# Altium footprint library AltiumOpenLibs.PcbLib: 173 footprints (part 8 of 11)
Each footprint in its own frame and in the unit in brackets; x right, y up, seen from the top. Pads: shape width x height; smd on the part's side, far side on the other; paste and mask are expansions set on the pad; w line width, h text height; cw(c..) or ccw(c..) is an arc to the next point about the centre after c.
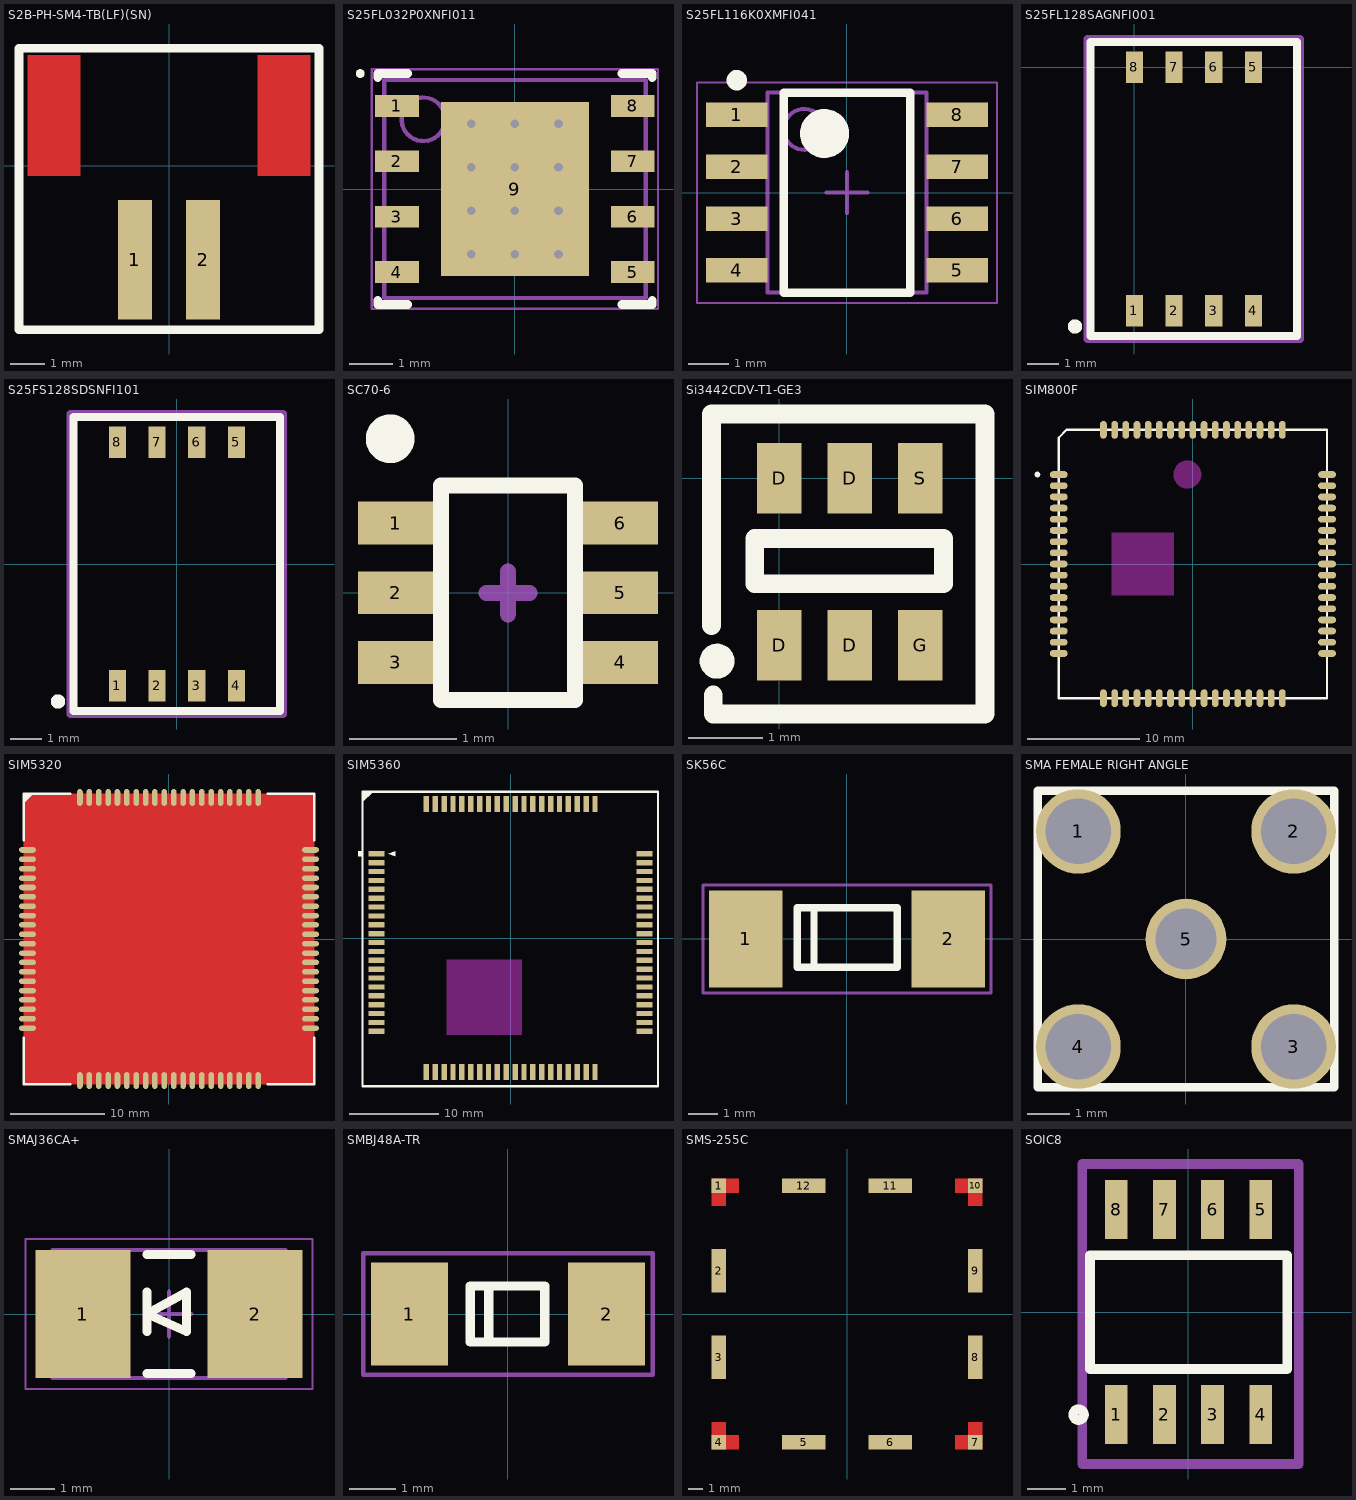
[diagram p7: the footprints below, top view; thin cyan lines are the x and y axes]

## S2B-PH-SM4-TB(LF)(SN) [mm]
pads (2):
  rect 1x3.5 smd: 1(-1,-2.75) 2(1,-2.75)
Top Layer:
  rectangle: -4.15,-0.3 -2.6,3.25
  region: 4.15,3.25 2.6,3.25 2.6,-0.3 4.15,-0.3
Top Overlay:
  lines w0.254: -4.4,-4.8 -4.4,3.45 4.4,3.45 4.4,-4.8 -4.4,-4.8
Top Paste:
  rectangle: 2.6,-0.3 4.15,3.25
  rectangle: -4.15,-0.3 -2.6,3.25
Top Solder:
  rectangle: 2.5,-0.4 4.25,3.35
  rectangle: -4.25,-0.4 -2.5,3.35

## S25FL032P0XNFI011 [mm] "PSON, 8-Leads, Body 5,00x6,00mm, Pitch 1,27mm, Thermal Pad 4,00x3,40mm, IPC Medium Density"
height 0.55
pads (9):
  rect 1x0.5 smd: 1(-2.705,1.905) 2(-2.705,0.635) 3(-2.705,-0.635) 4(-2.705,-1.905) 5(2.705,-1.905) 6(2.705,-0.635) 7(2.705,0.635) 8(2.705,1.905)
  rect 3.4x4 smd paste-1.7: 9(0,0)
via 1,-1.5 diameter 0.5 hole 0.2
via 0,-1.5 diameter 0.5 hole 0.2
via -1,-1.5 diameter 0.5 hole 0.2
via 1,-0.5 diameter 0.5 hole 0.2
via 0,-0.5 diameter 0.5 hole 0.2
via -1,-0.5 diameter 0.5 hole 0.2
via 1,0.5 diameter 0.5 hole 0.2
via 0,0.5 diameter 0.5 hole 0.2
via -1,0.5 diameter 0.5 hole 0.2
via 1,1.5 diameter 0.5 hole 0.2
via 0,1.5 diameter 0.5 hole 0.2
via -1,1.5 diameter 0.5 hole 0.2
Top Overlay:
  circle w0.1: c-3.55,2.65 r0.05
  lines w0.2: -3.15,-2.555 -3.15,-2.65 -2.455,-2.65 ; -3.15,2.555 -3.15,2.65 -2.455,2.65 ; 2.455,-2.65 3.15,-2.65 3.15,-2.555 ; 2.455,2.65 3.15,2.65 3.15,2.555
Top Paste:
  rectangle: 0.665,-1.895 1.595,-0.765
  rectangle: 0.665,-0.565 1.595,0.565
  rectangle: 0.665,0.765 1.595,1.895
  rectangle: -0.465,-1.895 0.465,-0.765
  rectangle: -0.465,-0.565 0.465,0.565
  rectangle: -0.465,0.765 0.465,1.895
  rectangle: -1.595,-1.895 -0.665,-0.765
  rectangle: -1.595,-0.565 -0.665,0.565
  rectangle: -1.595,0.765 -0.665,1.895
Mechanical 13:
  circle w0.1: c-2.1,1.6 r0.5
  lines w0.1: -3,-2.5 3,-2.5 3,2.5 -3,2.5 -3,-2.5
Mechanical 15:
  lines w0.05: -3.285,-2.75 3.285,-2.75 3.285,2.75 -3.285,2.75 -3.285,-2.75
  lines w0.1: -0.5,0 0.5,0 ; 0,-0.5 0,0.5
3D body: height 0.55, standoff 0, extent -3,-2.5 3,2.5

## S25FL116K0XMFI041 [mm] "SOIC, 8-Leads, Body 4.90x3.90mm, Pitch 1.27mm, IPC Medium Density"
height 1.75
pads (8):
  rect 1.5x0.6 smd: 1(-2.7,1.905) 2(-2.7,0.635) 3(-2.7,-0.635) 4(-2.7,-1.905) 5(2.7,-1.905) 6(2.7,-0.635) 7(2.7,0.635) 8(2.7,1.905)
Top Overlay:
  circle w0.25: c-2.7,2.755 r0.125
  circle w0.6: c-0.55,1.45 r0.3
  lines w0.2: -1.55,-2.45 -1.55,2.45 1.55,2.45 1.55,-2.45 -1.55,-2.45
Mechanical 13:
  circle w0.1: c-1.05,1.55 r0.5
  lines w0.1: -1.95,-2.45 -1.95,2.45 1.95,2.45 1.95,-2.45 -1.95,-2.45
Mechanical 15:
  lines w0.05: -3.675,-2.7 -3.675,2.7 3.675,2.7 3.675,-2.7 -3.675,-2.7
  lines w0.1: -0.5,0 0.5,0 ; 0,-0.5 0,0.5
3D body: height 1.75, standoff 0.25, extent -1.95,-2.45 1.95,2.45

## S25FL128SAGNFI001 [mm]
pads (8):
  rect 0.55x1 smd: 1(0,-7.8) 2(1.27,-7.8) 3(2.54,-7.8) 4(3.81,-7.8) 5(3.81,0) 6(2.54,0) 7(1.27,0) 8(0,0)
Top Overlay:
  circle w0.254: c-1.9,-8.3 r0.1
  lines w0.254: -1.4,-8.6 5.2,-8.6 5.2,0.8 -1.4,0.8 -1.4,-8.3 -1.4,-8.6
Mechanical 15:
  lines w0.254: -1.5,-8.7 -1.5,0.9 5.3,0.9 5.3,-8.7 -1.5,-8.7
3D body: height 0.75, standoff 0, extent -1.1,-7.875 4.9,0.075

## S25FS128SDSNFI101 [mm]
pads (8):
  rect 0.55x1 smd: 1(-1.905,-3.9) 2(-0.635,-3.9) 3(0.635,-3.9) 4(1.905,-3.9) 5(1.905,3.9) 6(0.635,3.9) 7(-0.635,3.9) 8(-1.905,3.9)
Top Overlay:
  circle w0.254: c-3.805,-4.4 r0.1
  lines w0.254: -3.305,-4.7 3.295,-4.7 3.295,4.7 -3.305,4.7 -3.305,-4.4 -3.305,-4.7
Mechanical 15:
  lines w0.254: -3.405,-4.8 -3.405,4.8 3.395,4.8 3.395,-4.8 -3.405,-4.8
3D body: height 0.75, standoff 0, extent -3.005,-3.975 2.995,3.975

## SC70-6 [mm]
pads (6):
  rect 0.7x0.4 smd: 1(-1.05,0.65) 2(-1.05,0) 3(-1.05,-0.65) 4(1.05,-0.65) 5(1.05,0) 6(1.05,0.65)
Top Overlay:
  circle w0.254: c-1.1,1.438 r0.1
  lines w0.15: -0.625,-1 0.625,-1 0.625,1 -0.625,1 -0.625,-1
Mechanical 15:
  lines w0.15: -0.2,0 0.2,0 ; 0,-0.2 0,0.2
3D body: height 0, standoff 0, extent -0.625,-1 0.65,0.975

## Si3442CDV-T1-GE3 [mm]
pads (6):
  rect 0.6x0.95 smd: D(0,-2.25) D(0,0) D(0.95,-2.25) D(0.95,0) G(1.9,-2.25) S(1.9,0)
Top Overlay:
  circle w0.254: c-0.838,-2.464 r0.108
  lines w0.254: -0.914,-1.981 -0.914,0.864 2.769,0.864 2.769,-3.175 -0.889,-3.175 -0.889,-2.921 ; -0.33,-1.422 -0.33,-0.813 2.21,-0.813 2.21,-1.422 -0.33,-1.422
3D body "User Library-TSOP-6.STEP": height 1, standoff 0, extent -0.535,-2.468 2.465,0.232

## SIM800F [mm]
pads (68):
  oval 1.6x0.6 smd: 1(-12,8) 2(-12,7) 3(-12,6) 4(-12,5) 5(-12,4) 6(-12,3) 7(-12,2) 8(-12,1) 9(-12,0) 10(-12,-1) 11(-12,-2) 12(-12,-3) 13(-12,-4) 14(-12,-5) 15(-12,-6) 16(-12,-7) 17(-12,-8) 35(12,-8) 36(12,-7) 37(12,-6) 38(12,-5) 39(12,-4) 40(12,-3) 41(12,-2) 42(12,-1) 43(12,0) 44(12,1) 45(12,2) 46(12,3) 47(12,4) 48(12,5) 49(12,6) 50(12,7) 51(12,8)
  oval 0.6x1.6 smd: 18(-8,-12) 19(-7,-12) 20(-6,-12) 21(-5,-12) 22(-4,-12) 23(-3,-12) 24(-2,-12) 25(-1,-12) 26(0,-12) 27(1,-12) 28(2,-12) 29(3,-12) 30(4,-12) 31(5,-12) 32(6,-12) 33(7,-12) 34(8,-12) 52(8,12) 53(7,12) 54(6,12) 55(5,12) 56(4,12) 57(3,12) 58(2,12) 59(1,12) 60(0,12) 61(-1,12) 62(-2,12) 63(-3,12) 64(-4,12) 65(-5,12) 66(-6,12) 67(-7,12) 68(-8,12)
Top Layer keep-out:
  circle w1.5: c-0.5,8 r0.5
  rectangle: -7.3,-2.8 -1.7,2.8
Top Overlay:
  circle w0.254: c-13.905,8 r0.127
  lines w0.2: -12,-12 12,-12 12,12 -11.302,12 -12,11.302 -12,-12
3D body: height 0, standoff 0, extent -12.064,-12.066 11.939,11.81

## SIM5320 [mm]
pads (80):
  oval 1.8x0.6 smd: 1(-15.1,9.5) 2(-15.1,8.5) 3(-15.1,7.5) 4(-15.1,6.5) 5(-15.1,5.5) 6(-15.1,4.5) 7(-15.1,3.5) 8(-15.1,2.5) 9(-15.1,1.5) 10(-15.1,0.5) 11(-15.1,-0.5) 12(-15.1,-1.5) 13(-15.1,-2.5) 14(-15.1,-3.5) 15(-15.1,-4.5) 16(-15.1,-5.5) 17(-15.1,-6.5) 18(-15.1,-7.5) 19(-15.1,-8.5) 20(-15.1,-9.5) 41(15.1,-9.5) 42(15.1,-8.5) 43(15.1,-7.5) 44(15.1,-6.5) 45(15.1,-5.5) 46(15.1,-4.5) 47(15.1,-3.5) 48(15.1,-2.5) 49(15.1,-1.5) 50(15.1,-0.5) 51(15.1,0.5) 52(15.1,1.5) 53(15.1,2.5) 54(15.1,3.5) 55(15.1,4.5) 56(15.1,5.5) 57(15.1,6.5) 58(15.1,7.5) 59(15.1,8.5) 60(15.1,9.5)
  oval 0.6x1.8 smd: 21(-9.5,-15.1) 22(-8.5,-15.1) 23(-7.5,-15.1) 24(-6.5,-15.1) 25(-5.5,-15.1) 26(-4.5,-15.1) 27(-3.5,-15.1) 28(-2.5,-15.1) 29(-1.5,-15.1) 30(-0.5,-15.1) 31(0.5,-15.1) 32(1.5,-15.1) 33(2.5,-15.1) 34(3.5,-15.1) 35(4.5,-15.1) 36(5.5,-15.1) 37(6.5,-15.1) 38(7.5,-15.1) 39(8.5,-15.1) 40(9.5,-15.1) 61(9.5,15.1) 62(8.5,15.1) 63(7.5,15.1) 64(6.5,15.1) 65(5.5,15.1) 66(4.5,15.1) 67(3.5,15.1) 68(2.5,15.1) 69(1.5,15.1) 70(0.5,15.1) 71(-0.5,15.1) 72(-1.5,15.1) 73(-2.5,15.1) 74(-3.5,15.1) 75(-4.5,15.1) 76(-5.5,15.1) 77(-6.5,15.1) 78(-7.5,15.1) 79(-8.5,15.1) 80(-9.5,15.1)
Top Layer:
  pour cut-out: -15.5,15.5 15.5,15.5 15.5,-15.5 -15.5,-15.5
Top Overlay:
  region: -15.5,15.5 -15.5,14.5 -14.5,15.5
  lines w0.25: -15.5,-10.5 -15.5,-15.5 -10.5,-15.5 ; -15.5,10.5 -15.5,15.5 -10.5,15.5 ; 10.5,-15.5 15.5,-15.5 15.5,-10.5 ; 10.5,15.5 15.5,15.5 15.5,10.5
Mechanical 1:
  lines w0.254: -15,-15 15,-15 15,15 -15,15 -15,-15
Mechanical 5:
  lines w0.2: -14.992,-14.98 -14.992,14.992 14.98,14.992 14.98,-14.98 -14.992,-14.98
3D body "SIM5320E.STEP": height 2.9, standoff -0.04, extent -15,-14.9 15,15.1

## SIM5360 [mm]
pads (82):
  rect 1.8x0.6 smd: 1(-15.1,9.5) 2(-15.1,8.5) 3(-15.1,7.5) 4(-15.1,6.5) 5(-15.1,5.5) 6(-15.1,4.5) 7(-15.1,3.5) 8(-15.1,2.5) 9(-15.1,1.5) 10(-15.1,0.5) 11(-15.1,-0.5) 12(-15.1,-1.5) 13(-15.1,-2.5) 14(-15.1,-3.5) 15(-15.1,-4.5) 16(-15.1,-5.5) 17(-15.1,-6.5) 18(-15.1,-7.5) 19(-15.1,-8.5) 20(-15.1,-9.5) 41(15.1,-9.5) 42(15.1,-8.5) 43(15.1,-7.5) 44(15.1,-6.5) 45(15.1,-5.5) 46(15.1,-4.5) 47(15.1,-3.5) 48(15.1,-2.5) 49(15.1,-1.5) 50(15.1,-0.5) 51(15.1,0.5) 52(15.1,1.5) 53(15.1,2.5) 54(15.1,3.5) 55(15.1,4.5) 56(15.1,5.5) 57(15.1,6.5) 58(15.1,7.5) 59(15.1,8.5) 60(15.1,9.5) 81(-15.1,-10.5) 82(15.1,-10.5)
  rect 0.6x1.8 smd: 21(-9.5,-15.1) 22(-8.5,-15.1) 23(-7.5,-15.1) 24(-6.5,-15.1) 25(-5.5,-15.1) 26(-4.5,-15.1) 27(-3.5,-15.1) 28(-2.5,-15.1) 29(-1.5,-15.1) 30(-0.5,-15.1) 31(0.5,-15.1) 32(1.5,-15.1) 33(2.5,-15.1) 34(3.5,-15.1) 35(4.5,-15.1) 36(5.5,-15.1) 37(6.5,-15.1) 38(7.5,-15.1) 39(8.5,-15.1) 40(9.5,-15.1) 61(9.5,15.1) 62(8.5,15.1) 63(7.5,15.1) 64(6.5,15.1) 65(5.5,15.1) 66(4.5,15.1) 67(3.5,15.1) 68(2.5,15.1) 69(1.5,15.1) 70(0.5,15.1) 71(-0.5,15.1) 72(-1.5,15.1) 73(-2.5,15.1) 74(-3.5,15.1) 75(-4.5,15.1) 76(-5.5,15.1) 77(-6.5,15.1) 78(-7.5,15.1) 79(-8.5,15.1) 80(-9.5,15.1)
Top Overlay:
  rectangle: -17.2,9.2 -16.7,9.8
  region: -16.7,16.5 -16.7,15.28 -15.53,16.45 -15.53,16.5
  region: -13.8,9.5 -13,9.8 -13,9.2
  lines w0.254: -16.7,-16.7 16.6,-16.7 16.6,16.5 -16.7,16.5 -16.7,9.5 -16.7,-16.7
Keep-Out Layer:
  rectangle: -7.25,-10.9 1.25,-2.4
3D body: height 2.9, standoff 1.2, extent -14.2,-14 14,14.2
3D body: height 1.2, standoff 0, extent -15,-14.9 15,15.1

## SK56C [mm]
pads (2):
  rect 2.5x3.3 smd: 1(-3.45,0) 2(3.45,0)
Top Overlay:
  lines w0.25: -1.133,1.057 -1.691,1.057 -1.691,-0.96 1.711,-0.96 1.711,1.057 -1.12,1.057 -1.12,-0.964
Mechanical 15:
  lines w0.1: -4.889,-1.846 4.902,-1.846 4.902,1.836 -4.889,1.836 -4.889,-1.846

## SMA FEMALE RIGHT ANGLE [mm]
pads (5):
  round 2 hole 1.55: 1(-2.54,2.54) 2(2.54,2.54) 3(2.54,-2.54) 4(-2.54,-2.54)
  round 1.9 hole 1.45: 5(0,0)
Top Overlay:
  lines w0.2: -3.5,-3.5 3.5,-3.5 3.5,3.5 -3.5,3.5 -3.5,-3.5
3D body: height 0, standoff 0, extent -3.55,-3.55 3.5,3.5

## SMAJ36CA+ [mm] "Chip Diode, 2-Leads, Body 5.04x2.63mm, IPC Medium Density"
height 2.62
pads (2):
  rect 2.15x2.9 smd: 1(-1.95,0) 2(1.95,0)
Top Overlay:
  lines w0.2: -0.5,-1.35 0.5,-1.35 ; -0.5,-0.4 -0.5,0.5 ; -0.5,1.35 0.5,1.35 ; -0.5,0 0.4,0.5 0.4,-0.4 -0.5,0
Mechanical 13:
  lines w0.1: -2.64,-1.45 -2.64,1.45 2.64,1.45 2.64,-1.45 -2.64,-1.45
Mechanical 15:
  lines w0.05: -3.25,-1.7 -3.25,1.7 3.25,1.7 3.25,-1.7 -3.25,-1.7
  lines w0.1: -0.5,0 0.5,0 ; 0,-0.5 0,0.5
3D body: height 2.62, standoff 0, extent -1.5,-1.45 1.5,1.45
3D body: height 2.62, standoff 0, extent -2.64,-1.45 -1.5,1.45
3D body: height 2.62, standoff 0, extent 1.5,-1.45 2.64,1.45

## SMBJ48A-TR [mm]
pads (2):
  rect 1.65x2.2 smd: 1(-2.11,0) 2(2.11,0)
Top Overlay:
  lines w0.2: -0.41,-0.6 -0.41,0.6 -0.31,0.6 ; -0.81,-0.6 -0.81,0.6 0.79,0.6 0.79,-0.6 -0.81,-0.6
Mechanical 15:
  lines w0.1: -3.1,-1.3 -3.1,1.3 3.1,1.3 3.1,-1.3 -3.1,-1.3

## SMS-255C [mm]
pads (12):
  rect 1x1 smd mask-1: 1(-8.91,8.91) 4(-8.91,-8.91) 7(8.91,-8.91) 10(8.91,8.91)
  rect 1x3 smd: 2(-8.91,3) 3(-8.91,-3) 8(8.91,-3) 9(8.91,3)
  rect 3x1 smd: 5(-3,-8.91) 6(3,-8.91) 11(3,8.91) 12(-3,8.91)
Top Layer:
  region: 9.41,7.5 9.41,9.41 8.41,9.41 8.41,7.5
  region: -9.41,-7.5 -9.41,-9.41 -8.41,-9.41 -8.41,-7.5
  region: -7.5,-8.41 -9.41,-8.41 -9.41,-9.41 -7.5,-9.41
  region: 8.41,-7.5 8.41,-9.41 9.41,-9.41 9.41,-7.5
  rectangle: 7.5,-9.41 9.41,-8.41
  region: -7.5,9.41 -9.41,9.41 -9.41,8.41 -7.5,8.41
  region: -8.41,7.5 -8.41,9.41 -9.41,9.41 -9.41,7.5
  rectangle: 7.5,8.41 9.41,9.41
Top Solder:
  rectangle: 7.4,8.31 9.51,9.51
  region: 9.51,7.4 9.51,9.51 8.31,9.51 8.31,7.4
  region: -9.51,-7.4 -9.51,-9.51 -8.31,-9.51 -8.31,-7.4
  region: -7.4,-8.31 -9.51,-8.31 -9.51,-9.51 -7.4,-9.51
  region: 8.31,-7.4 8.31,-9.51 9.51,-9.51 9.51,-7.4
  rectangle: 7.4,-9.51 9.51,-8.31
  region: -7.4,9.51 -9.51,9.51 -9.51,8.31 -7.4,8.31
  region: -8.31,7.4 -8.31,9.51 -9.51,9.51 -9.51,7.4

## SOIC8 [mm]
pads (8):
  rect 0.6x1.55 smd: 1(-1.905,-2.7) 2(-0.635,-2.7) 3(0.635,-2.7) 4(1.905,-2.7) 5(1.905,2.7) 6(0.635,2.7) 7(-0.635,2.7) 8(-1.905,2.7)
Top Overlay:
  circle w0.254: c-2.895,-2.7 r0.141
  lines w0.254: -2.595,-1.5 2.605,-1.5 2.605,1.5 -2.595,1.5 -2.595,-1.5
Mechanical 15:
  lines w0.254: -2.795,-4 2.905,-4 2.905,3.9 -2.795,3.9 -2.795,-4